# EAGLE library part SN74LVC1G99DCUR (library SN74LVC1G99DCUR)
Ultra-Configurable Multi-Function Gate With 3-State Outputs Source: Datasheet <http://www.ti.com/lit/gpn/sn74lvc1g99>
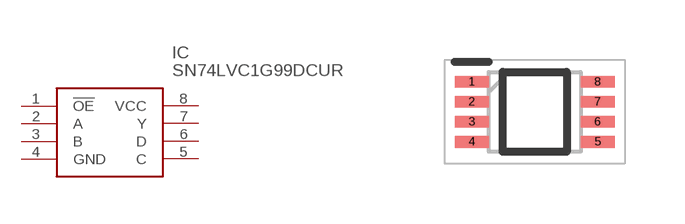
[diagram p0: symbol with the pads of SOP50P310X90-8N; footprint SOP50P310X90-8N]

Designator prefix IC

## SN74LVC1G99DCUR (Description: Ultra-Configurable Multi-Function Gate With 3-State Outputs; Height: 0.9mm; Manufacturer_Name: Texas Instruments; Manufacturer_Part_Number: SN74LVC1G99DCUR; Mouser_Part_Number: 595-SN74LVC1G99DCUR; Mouser_Price-Stock: https://www.mouser.co.uk/ProductDetail/Texas-Instruments/SN74LVC1G99DCUR?qs=nqigI8dpoHJeqYrZLBAGug%3D%3D)  [SOP50P310X90-8N]
1  !OE
2  A
3  B
4  GND
5  C
6  D
7  Y
8  VCC

## Footprint SOP50P310X90-8N (pad centres in mm)
SN74LVC1G99DCUR
smd 0.85 x 0.3: 1 -1.575,0.75; 2 -1.575,0.25; 3 -1.575,-0.25; 4 -1.575,-0.75; 5 1.575,-0.75; 6 1.575,-0.25; 7 1.575,0.25; 8 1.575,0.75